# Altium schematic symbol library Cap_Res.SchLib: 8 symbols
Pins are listed as number, name and electrical type; pins without a type are passive.

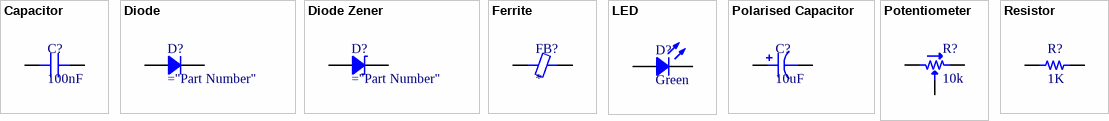
[diagram p0: symbols Capacitor to Resistor]

## Capacitor
designator C?, comment 100nF
SMT Capacitor; Value: 0.1uF
footprint CAP 0201/0603 (Chip Capacitor, 2-Leads, Body 0.60x0.30mm, IPC Medium Density)
footprint CAP 0402/1005 (Chip Capacitor, 2-Leads, Body 1.02x0.51mm, IPC Medium Density)
footprint CAP 0603/1608 (Chip Capacitor, 2-Leads, Body 1.60x0.80mm, IPC Medium Density)
footprint CAP 0805/2012 (Chip Capacitor, 2-Leads, Body 2.00x1.20mm, IPC Medium Density)
footprint CAP 1206/3216 (Chip Capacitor, 2-Leads, Body 3.25x1.60mm, IPC Medium Density)
footprint Cap
pins: 1, 2

## Diode
designator D?
Rectifier Diode
footprint SOD123F (SODFL, 2-Leads, Body 1.60x3.50mm, IPC Medium Density)
footprint SOD323F (SODFL, 2-Leads, Body 1.25x2.50mm, IPC Medium Density)
footprint SOD523F (SODFL, 2-Leads, Body 0.80x1.60mm, IPC Medium Density)
footprint SOD-123 (SOD, 2-Leads, Body 1.55x3.70mm, IPC Medium Density)
footprint DO214AA SMB (Molded Diode, 2-Leads, Body 4.31x3.62mm, IPC Medium Density)
footprint DO214AB SMC (Molded Diode, 2-Leads, Body 6.85x5.90mm, IPC Medium Density)
footprint DO214AC SMA (Molded Diode, 2-Leads, Body 4.30x2.60mm, IPC Medium Density)
footprint Diode (Diode, Axial; Body 5.2 x 2.7 mm (LxDia. max), Lead Dia. 0.86 mm (max))
footprint Diode_SS34
pins: 1, 2

## Diode Zener
designator D?
Zener Diode
footprint SOD123F (SODFL, 2-Leads, Body 1.60x3.50mm, IPC Medium Density)
pins: 1, 2

## Ferrite
designator FB?
SMT Ferrite Chip
footprint FER 0201/0603 (Chip Inductor, 2-Leads, Body 0.60x0.30mm, IPC Medium Density)
footprint FER 0402/1005 (Chip Ferrite, 2-Leads, Body 1.02x0.51mm, IPC Medium Density)
footprint FER 0603/1608 (Chip Ferrite, 2-Leads, Body 1.60x0.80mm, IPC Medium Density)
footprint FER 0805/2012 (Chip Ferrite, 2-Leads, Body 2.00x1.20mm, IPC Medium Density)
pins: 1, 2

## LED
designator D?, comment Green
Chip LED; Value: Green
footprint LED 0402/1005 (Chip Diode, 2-Leads, Body 1.00x0.50mm, IPC Medium Density)
footprint LED 0402/1005 BLUE (Chip Diode, 2-Leads, Body 1.00x0.50mm, IPC Medium Density)
footprint LED 0402/1005 GREEN (Chip Diode, 2-Leads, Body 1.00x0.50mm, IPC Medium Density)
footprint LED 0402/1005 RED (Chip Diode, 2-Leads, Body 1.00x0.50mm, IPC Medium Density)
footprint LED 0402/1005 YELLOW (Chip Diode, 2-Leads, Body 1.00x0.50mm, IPC Medium Density)
footprint LED 0603/1608 (Chip Diode, 2-Leads, Body 1.60x0.80mm, IPC Medium Density)
footprint LED 0603/1608 BLUE (Chip Diode, 2-Leads, Body 1.60x0.80mm, IPC Medium Density)
footprint LED 0603/1608 GREEN (Chip Diode, 2-Leads, Body 1.60x0.80mm, IPC Medium Density)
footprint LED 0603/1608 RED (Chip Diode, 2-Leads, Body 1.60x0.80mm, IPC Medium Density)
footprint LED 0603/1608 YELLOW (Chip Diode, 2-Leads, Body 1.60x0.80mm, IPC Medium Density)
footprint LED 0805/2012 (Chip Diode, 2-Leads, Body 2.00x1.25mm, IPC Medium Density)
footprint LED 0805/2012 BLUE (Chip Diode, 2-Leads, Body 2.00x1.25mm, IPC Medium Density)
footprint LED 0805/2012 GREEN (Chip Diode, 2-Leads, Body 2.00x1.25mm, IPC Medium Density)
footprint LED 0805/2012 RED (Chip Diode, 2-Leads, Body 2.00x1.25mm, IPC Medium Density)
footprint LED 0805/2012 YELLOW (Chip Diode, 2-Leads, Body 2.00x1.25mm, IPC Medium Density)
footprint LED 1206/3216 (Chip Diode, 2-Leads, Body 3.13x1.55mm, IPC Medium Density)
footprint LED 1206/3216 BLUE (Chip Diode, 2-Leads, Body 3.13x1.55mm, IPC Medium Density)
footprint LED 1206/3216 GREEN (Chip Diode, 2-Leads, Body 3.13x1.55mm, IPC Medium Density)
footprint LED 1206/3216 RED (Chip Diode, 2-Leads, Body 3.13x1.55mm, IPC Medium Density)
footprint LED 1206/3216 YELLOW (Chip Diode, 2-Leads, Body 3.13x1.55mm, IPC Medium Density)
footprint LED 5mm
pins: 1, 2

## Polarised Capacitor
designator C?, comment 10uF
SMT Polarised Capacitor; Value: 10uF
footprint CAP ALUM 6.6MM (Aluminum Electrolytic Capacitor, Body 6.60x6.60x7.70mm, IPC Low Density)
footprint CAP ALUM 8.3MM (Aluminum Electrolytic Capacitor, Body 8.30x8.30x10.50mm, IPC Low Density)
footprint CAP ALUM 10.3MM (Aluminum Electrolytic Capacitor, Body 10.30x10.30x10.50mm, IPC Low Density)
footprint CAP ALUM 5MM (Aluminum Electrolytic Capacitor, Body 6.60x6.60x7.70mm, IPC Low Density)
footprint Cap_1_(1.5mm) (Capacitor, Electrolytic, Radial; Body 5 x 6.8 mm (Dia.xH typ); Pin Spacing 2 mm (typ))
footprint Cap_2_(2.5mm) (Capacitor, Electrolytic, Radial; Body 6.3 x 6.8 mm (Dia.xH typ); Pin Spacing 2.5 mm (typ))
footprint Cap_3_(3.5mm) (Capacitor, Electrolytic, Radial; Body 8 x 5 mm (Dia.xH typ); Pin Spacing 3.5 mm (typ))
footprint Cap_4_(5mm) (Capacitor, Electrolytic, Radial; Body 10 x 5 mm (Dia.xH typ); Pin Spacing 5 mm (typ))
footprint Cap_5_(7.5mm) (Capacitor, Electrolytic, Radial; Body 16 x 25 mm (Dia.xH typ); Pin Spacing 7.5 mm (typ))
footprint Cap_A (Capacitor, SM Tantalum; Body 3.2 x 1.6 mm (LxW typ))
footprint Cap_B (Capacitor, SM Tantalum; Body 3.5 x 2.8 mm (LxW typ))
footprint Cap_C (Capacitor, SM Tantalum; Body 6.0 x 3.2 mm (LxW typ))
footprint Cap_D (Capacitor, SM Tantalum; Body 7.3 x 4.3 mm (LxW typ))
footprint Cap_E (Capacitor, SM Tantalum; Body 7.3 x 6.0 mm (LxW typ))
footprint Cap_R (Capacitor, SM Tantalum; Body 2.0 x 1.3 mm (LxW typ))
footprint Cap_V (Capacitor, SM Tantalum; Body 7.3 x 4.3 mm (LxW typ))
footprint Cap_X (Capacitor, SM Tantalum; Body 7.3 x 4.3 mm (LxW typ))
pins: 1, 2

## Potentiometer
designator R?, comment 10k
Potentiometer; Value: 10k
footprint POT PANASONIC EVM2W (Panasonic EVM2W 2.75mm x 2.20mm x 1.05mm)
footprint POT Panasonic EVM (Panasonic EVM3Y 3.45mm x 3.10mm x 1.55mm)
footprint Setpoint POT
pins: 1, 2, 3

## Resistor
designator R?, comment 1K
SMT Resistor; Value: 1K
footprint RES 0201/0603 (Chip Resistor, 2-Leads, Body 0.60x0.30mm, IPC Medium Density)
footprint RES 0402/1005 (Chip Resistor, 2-Leads, Body 1.0x0.5mm, IPC Medium Density)
footprint RES 0603/1608 (Chip Resistor, 2-Leads, Body 1.60x0.80mm, IPC Medium Density)
footprint RES 0805/2012 (Chip Resistor, 2-Leads, Body 2.00x1.25mm, IPC Medium Density)
footprint RES 1206/3216 (Chip Resistor, 2-Leads, Body 3.13x1.55mm, IPC Medium Density)
pins: 1, 2